# EAGLE library part 750813743 (library WE-OLTI)
WE-OLTI Offline Flyback Transformers Characteristics Nominal input voltage: 85–265 VAC (120–375 VDC) Small size Low leakage inductance Multiple-output options Operating temperature: −40 °C to +125 °C Isolation Voltage: 2 kVAC to 5 kVAC Options for fixed frequency or quasi-resonant mode operation Most products meet reinforced insulation Applications Industrial controls USB chargers Utility metering devices Process controls Factory automation Security systems Garage door opener auxiliary supplies Home appliances Especially designed for several ICs from Texas Instruments <https://www.we-online.com/components/media/o814034v209%20UtOLTI%20Group%20CGI.jpg> Details see: www.we-online.com/en/components/products/WE-OLTI <www.we-online.com/catalog/WE-OLTI/?utm_source=eagle_model&utm_medium=description_link&utm_campaign=eisos_eagle> Created by Ella Wu 2025-02-06 2025 (C) Wurth Elektronik
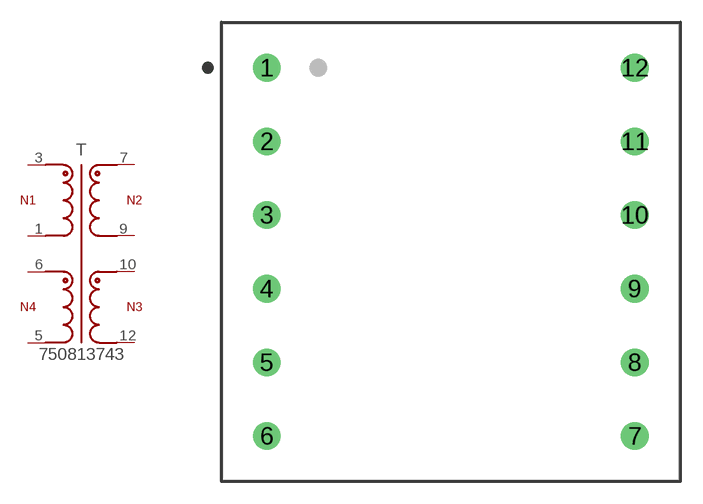
[diagram p3: symbol with the pads of WE-OLTI_ER28/14_L31W31H25; footprint WE-OLTI_ER28/14_L31W31H25]

Designator prefix T

## 750813743 (DATASHEET-URL: https://www.we-online.com/redexpert/spec/750813743?ae; FSWITCH: 60kHz; HEIGHT: 25mm; IOUT1: 4050mA; IOUT2: 4050mA; ISAT: 7.3A; L: 180uH; LENGTH: 31mm; MOUNT: THT; N: 10:1:1:1; PART-NUMBER: 750813743; SIZE: ER28/14; VALUE: 180uH; VAUX: 15V; VIN: 90 - 144 V (AC); VOUT1: 12V; VOUT2: 12V; VT: 3750V(AC); WIDTH: 31mm)  [WE-OLTI_ER28/14_L31W31H25]
1  P2  pas
3  P1  pas
5  A2  pas
6  A1  pas
7  S1  pas
9  S2  pas
10  S3  pas
12  S4  pas

## Footprint WE-OLTI_ER28/14_L31W31H25 (pad centres in mm)
WE-OLTI Offline Flyback Transformers Size: ER28/14,THT,12pins LXWXH=31X31X25mm Bobbin: 070-4869
drill 1.25: 1 -12.5,12.5; 2 -12.5,7.5; 3 -12.5,2.5; 4 -12.5,-2.5; 5 -12.5,-7.5; 6 -12.5,-12.5; 7 12.5,-12.5; 8 12.5,-7.5; 9 12.5,-2.5; 10 12.5,2.5; 11 12.5,7.5; 12 12.5,12.5